# Altium schematic symbol library 2012_Payload_Tray.SchLib: 1 symbol
Pins are listed as number, name and electrical type; pins without a type are passive.

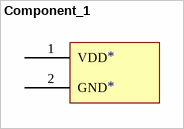
[diagram p0: symbol Component_1]

## Component_1
designator *
pins: 1 VDD, 2 GND